# EAGLE library part 61002221821 (library Wuerth_Elektronik_eiCan_Pin_&_Socked_Headers_v1.3)
WR-PHD 2.54mm Dual SMT Socket Header, 22 Pins
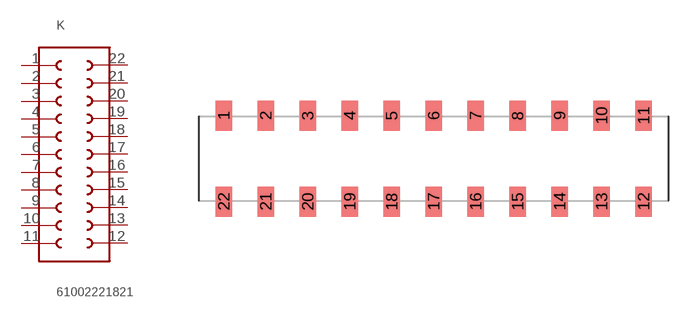
[diagram p256: symbol with the pads of 61002221821; footprint 61002221821]

Designator prefix K

## 61002221821  [61002221821]
1  1  pas
2  2  pas
3  3  pas
4  4  pas
5  5  pas
6  6  pas
7  7  pas
8  8  pas
9  9  pas
10  10  pas
11  11  pas
12  12  pas
13  13  pas
14  14  pas
15  15  pas
16  16  pas
17  17  pas
18  18  pas
19  19  pas
20  20  pas
21  21  pas
22  22  pas

## Footprint 61002221821 (pad centres in mm)
WR-PHD 2.54mm Dual SMT Socket Header, 22 Pins
smd 1 x 1.8: 1 -13.97,2.6; 2 -11.43,2.6; 3 -8.89,2.6; 4 -6.35,2.6; 5 -3.81,2.6; 6 -1.27,2.6; 7 1.27,2.6; 8 3.81,2.6; 9 6.35,2.6; 10 8.89,2.6; 11 11.43,2.6; 12 11.43,-2.6; 13 8.89,-2.6; 14 6.35,-2.6; 15 3.81,-2.6; 16 1.27,-2.6; 17 -1.27,-2.6; 18 -3.81,-2.6; 19 -6.35,-2.6; 20 -8.89,-2.6; 21 -11.43,-2.6; 22 -13.97,-2.6